# EAGLE library part PI-COBBLER (library akn-pi-cobbler)
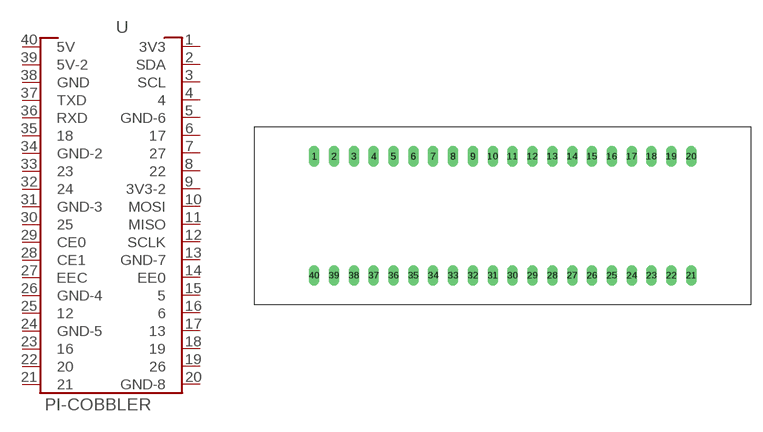
[diagram p0: symbol with the pads of PI-COBBLER; footprint PI-COBBLER]

Designator prefix -

## PI-COBBLER  [PI-COBBLER]
1  3V3  pas
2  SDA  pas
3  SCL  pas
4  4  pas
5  GND-6  pas
6  17  pas
7  27  pas
8  22  pas
9  3V3-2  pas
10  MOSI  pas
11  MISO  pas
12  SCLK  pas
13  GND-7  pas
14  EE0  pas
15  5  pas
16  6  pas
17  13  pas
18  19  pas
19  26  pas
20  GND-8  pas
21  21  pas
22  20  pas
23  16  pas
24  GND-5  pas
25  12  pas
26  GND-4  pas
27  EEC  pas
28  CE1  pas
29  CE0  pas
30  25  pas
31  GND-3  pas
32  24  pas
33  23  pas
34  GND-2  pas
35  18  pas
36  RXD  pas
37  TXD  pas
38  GND  pas
39  5V-2  pas
40  5V  pas

## Footprint PI-COBBLER (pad centres in mm)
Dual In Line Package
drill 0.813 long: 1 -22.86,6.35; 2 -20.32,6.35; 3 -17.78,6.35; 4 -15.24,6.35; 5 -12.7,6.35; 6 -10.16,6.35; 7 -7.62,6.35; 8 -5.08,6.35; 9 -2.54,6.35; 10 0,6.35; 11 2.54,6.35; 12 5.08,6.35; 13 7.62,6.35; 14 10.16,6.35; 15 12.7,6.35; 16 15.24,6.35; 17 17.78,6.35; 18 20.32,6.35; 19 22.86,6.35; 20 25.4,6.35; 21 25.4,-8.89; 22 22.86,-8.89; 23 20.32,-8.89; 24 17.78,-8.89; 25 15.24,-8.89; 26 12.7,-8.89; 27 10.16,-8.89; 28 7.62,-8.89; 29 5.08,-8.89; 30 2.54,-8.89; 31 0,-8.89; 32 -2.54,-8.89; 33 -5.08,-8.89; 34 -7.62,-8.89; 35 -10.16,-8.89; 36 -12.7,-8.89; 37 -15.24,-8.89; 38 -17.78,-8.89; 39 -20.32,-8.89; 40 -22.86,-8.89